# Altium footprint library inductors.PcbLib: 86 footprints (part 3 of 6)
Each footprint in its own frame and in the unit in brackets; x right, y up, seen from the top. Pads: shape width x height; smd on the part's side, far side on the other; paste and mask are expansions set on the pad; w line width, h text height; cw(c..) or ccw(c..) is an arc to the next point about the centre after c.
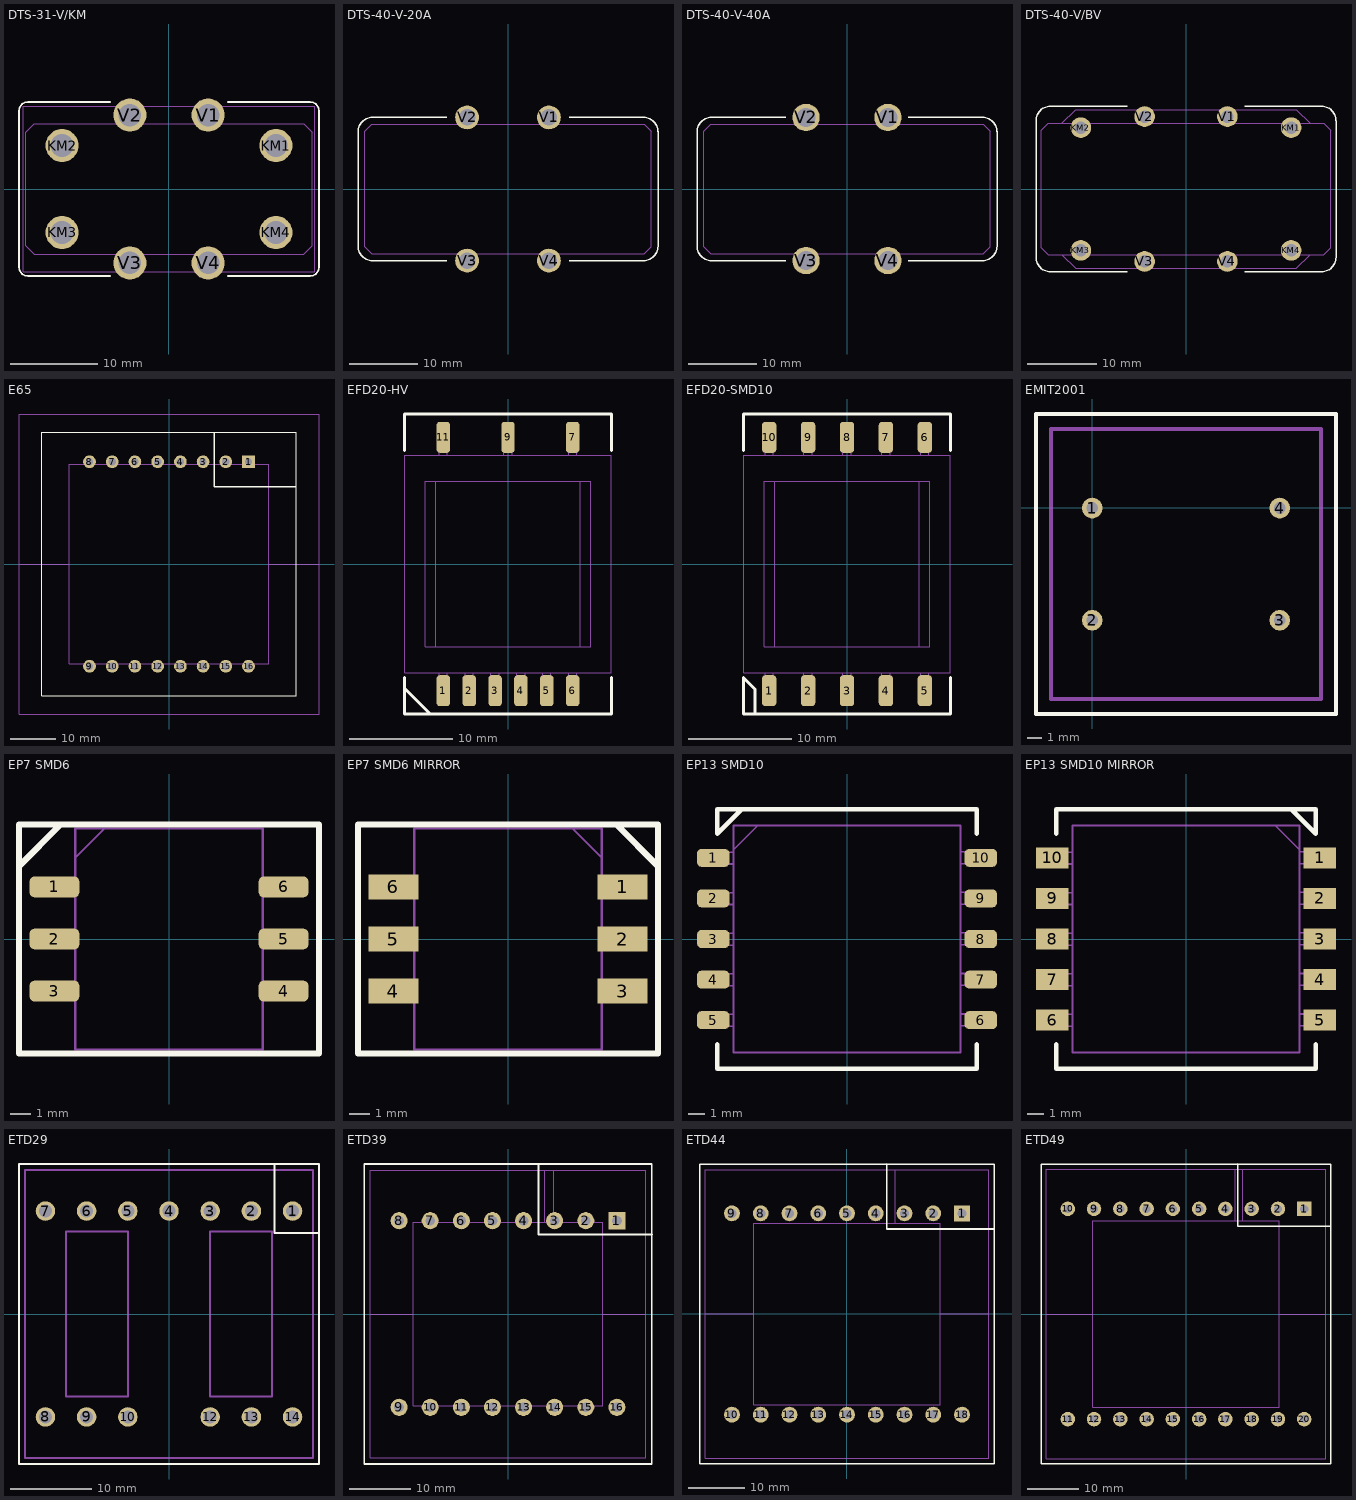
[diagram p2: the footprints below, top view; thin cyan lines are the x and y axes]

## DTS-31-V/KM [mm] "Common mode choke"
height 40
pads (8):
  round 3.8 hole 2.6: KM1(12.3,5) KM2(-12.3,5) KM3(-12.3,-5) KM4(12.3,-5) V1(4.5,8.5) V2(-4.5,8.5) V3(-4.5,-8.5) V4(4.5,-8.5)
Top Overlay:
  lines w0.2: -6.75,-10 -16.25,-10 cw(c-16.25,-9) -17.25,-9 -17.25,9 cw(c-16.25,9) -16.25,10 -6.75,10 ; 6.75,-10 16.25,-10 ccw(c16.25,-9) 17.25,-9 17.25,9 ccw(c16.25,9) 16.25,10 6.75,10
Mechanical 1:
  lines w0.1: -16.75,-9.5 16.75,-9.5 16.75,9.5 -16.75,9.5 -16.75,-9.5 ; -16.5,-6.5 -15.5,-7.5 15.5,-7.5 16.5,-6.5 16.5,6.5 15.5,7.5 -15.5,7.5 -16.5,6.5 -16.5,-6.5
3D body: height 12, standoff 0.5, extent -16.757,-9.507 16.756,9.507
3D body: height 39.98, standoff 7, extent -16.495,-7.5 16.495,7.5

## DTS-40-V-20A [mm] "Common mode choke"
height 42
pads (4):
  round 3.5 hole 2.4: V1(6,10.5) V2(-6,10.5) V3(-6,-10.5) V4(6,-10.5)
Top Overlay:
  lines w0.2: -22,-8.5 -22,8.5 ; -22,-8.384 ccw(c-19.884,-8.384) -19.884,-10.5 -9,-10.5 ; -22,8.384 cw(c-19.884,8.384) -19.884,10.5 -9,10.5 ; 9,-10.5 19.884,-10.5 ccw(c19.884,-8.384) 22,-8.384 ; 9,10.5 19.884,10.5 cw(c19.884,8.384) 22,8.384 ; 22,-8.5 22,8.5
Mechanical 1:
  lines w0.1: -21,-8.5 -20,-9.5 20,-9.5 21,-8.5 21,8.5 20,9.5 -20,9.5 -21,8.5 -21,-8.5
3D body: height 41.98, standoff 0, extent -20.99,-9.501 20.999,9.499

## DTS-40-V-40A [mm] "Common mode choke"
height 42
pads (4):
  round 4 hole 2.8: V1(6,10.5) V2(-6,10.5) V3(-6,-10.5) V4(6,-10.5)
Top Overlay:
  lines w0.2: -22,-8.5 -22,8.5 ; -22,-8.384 ccw(c-19.884,-8.384) -19.884,-10.5 -9,-10.5 ; -22,8.384 cw(c-19.884,8.384) -19.884,10.5 -9,10.5 ; 9,-10.5 19.884,-10.5 ccw(c19.884,-8.384) 22,-8.384 ; 9,10.5 19.884,10.5 cw(c19.884,8.384) 22,8.384 ; 22,-8.5 22,8.5
Mechanical 1:
  lines w0.1: -21,-8.5 -20,-9.5 20,-9.5 21,-8.5 21,8.5 20,9.5 -20,9.5 -21,8.5 -21,-8.5
3D body: height 41.98, standoff 0, extent -20.99,-9.501 20.999,9.499

## DTS-40-V/BV [mm] "Common mode choke"
height 45
pads (8):
  round 3 hole 1.8: KM1(15.25,8.9) KM2(-15.25,8.9) KM3(-15.25,-8.9) KM4(15.25,-8.9) V1(6,10.5) V2(-6,10.5) V3(-6,-10.5) V4(6,-10.5)
Top Overlay:
  lines w0.2: -21.75,9.884 cw(c-19.634,9.884) -19.634,12 -8.5,12 ; -21.75,10 -21.75,-9.884 ccw(c-19.634,-9.884) -19.634,-12 -8.5,-12 ; 8.5,-12 19.634,-12 ccw(c19.634,-9.884) 21.75,-9.884 ; 8.5,12 19.634,12 cw(c19.634,9.884) 21.75,9.884 21.75,-10
Mechanical 1:
  lines w0.1: -18,-9.5 -16,-11.5 16,-11.5 18,-9.5 ; -18,9.5 -16,11.5 16,11.5 18,9.5 ; -21,-8.5 -21,8.5 -20,9.5 20,9.5 21,8.5 21,-8.5 20,-9.5 -20,-9.5 -21,-8.5
3D body: height 12, standoff 0.5, extent -18.012,-11.512 18.012,11.512
3D body: height 44.98, standoff 3, extent -20.99,-9.501 20.999,9.499

## E65 [mm]
height 55
pads (16):
  rect 2.8x2.8 hole 1.6: 1(17.5,22.5)
  round 2.8 hole 1.6: 2(12.5,22.5) 3(7.5,22.5) 4(2.5,22.5) 5(-2.5,22.5) 6(-7.5,22.5) 7(-12.5,22.5) 8(-17.5,22.5) 9(-17.5,-22.5) 10(-12.5,-22.5) 11(-7.5,-22.5) 12(-2.5,-22.5) 13(2.5,-22.5) 14(7.5,-22.5) 15(12.5,-22.5) 16(17.5,-22.5)
Top Overlay:
  lines w0.25: -28,-29 28,-29 28,29 -28,29 -28,-29
  lines w0.3: 10,29 10,17 28,17
Mechanical 1:
  lines w0.1: -33,0 -22,0 ; 22,0 33,0 ; -33,-33 -33,33 33,33 33,-33 -33,-33 ; -22,-22 -22,22 22,22 22,-22 -22,-22
3D body: height 51.97, standoff 4, extent -23.999,-21 23.987,21
3D body: height 7.5, standoff -4.5, extent -17.996,22.001 -17,22.999
3D body: height 12, standoff 1.5, extent -22,-25 22,-20
3D body: height 40, standoff 13, extent -33,0.1 33,33
3D body: height 7.5, standoff -4.5, extent -12.996,22.001 -12,22.999
3D body: height 7.5, standoff -4.5, extent -2.996,22.001 -2,22.999
3D body: height 7.5, standoff -4.5, extent -7.996,22.001 -7,22.999
3D body: height 7.5, standoff -4.5, extent 12.004,22.001 13,22.999
3D body: height 7.5, standoff -4.5, extent 17.004,22.001 18,22.999
3D body: height 7.5, standoff -4.5, extent 7.004,22.001 8,22.999
3D body: height 7.5, standoff -4.5, extent 2.004,22.001 3,22.999
3D body: height 7.5, standoff -4.5, extent 2.004,-22.999 3,-22.001
3D body: height 7.5, standoff -4.5, extent 7.004,-22.999 8,-22.001
3D body: height 7.5, standoff -4.5, extent 17.004,-22.999 18,-22.001
3D body: height 7.5, standoff -4.5, extent 12.004,-22.999 13,-22.001
3D body: height 7.5, standoff -4.5, extent -7.996,-22.999 -7,-22.001
3D body: height 7.5, standoff -4.5, extent -2.996,-22.999 -2,-22.001
3D body: height 7.5, standoff -4.5, extent -12.996,-22.999 -12,-22.001
3D body: height 7.5, standoff -4.5, extent -17.996,-22.999 -17,-22.001
3D body: height 53, standoff 3, extent -22,20.5 -14,22
3D body: height 53, standoff 3, extent -22,-22 22,-20.5
3D body: height 12, standoff 1.5, extent -22,20 22,25
3D body: height 40, standoff 13, extent -33,-33 33,-0.1
3D body: height 53, standoff 3, extent -6,20.5 22,22

## EFD20-HV [mm]
height 9.5
pads (9):
  rrect50% 1.3x3 smd: 1(-6.25,-12.25) 2(-3.75,-12.25) 3(-1.25,-12.25) 4(1.25,-12.25) 5(3.75,-12.25) 6(6.25,-12.25) 7(6.25,12.25) 9(0,12.25) 11(-6.25,12.25)
Top Overlay:
  lines w0.3: -10,-12 -7.5,-14.5 ; -10,-11 -10,-14.5 10,-14.5 10,-11 ; -10,11 -10,14.5 10,14.5 10,11
Mechanical 1:
  lines w0.1: -6.65,-10.5 -6.65,-13.5 -5.85,-13.5 -5.85,-10.5 ; -6.65,10.5 -6.65,13.5 -5.85,13.5 -5.85,10.5 ; -4.15,-10.5 -4.15,-13.5 -3.35,-13.5 -3.35,-10.5 ; -1.65,-10.5 -1.65,-13.5 -0.85,-13.5 -0.85,-10.5 ; -0.4,10.5 -0.4,13.5 0.4,13.5 0.4,10.5 ; 0.85,-10.5 0.85,-13.5 1.65,-13.5 1.65,-10.5 ; 3.35,-10.5 3.35,-13.5 4.15,-13.5 4.15,-10.5 ; 5.85,-10.5 5.85,-13.5 6.65,-13.5 6.65,-10.5 ; 5.85,10.5 5.85,13.5 6.65,13.5 6.65,10.5 ; -7,-8 -7,8 ; -7,-8 7,-8 ; -7,-8 -8,-8 -8,8 -7,8 ; -7,8 7,8 ; 7,-8 7,8 ; 7,-8 8,-8 8,8 7,8 ; -10,-10.5 10,-10.5 10,10.5 -10,10.5 -10,-10.5
3D body: height 9.5, standoff 0.5, extent -7,-7.5 7,7.5
3D body: height 9, standoff 0.5, extent -10,-10.5 10,0
3D body: height 9, standoff 0.5, extent -10,0 10,10.5
3D body: height 1.1, standoff 0, extent -6.5,10.5 -6,13
3D body: height 1.1, standoff 0, extent -0.25,10.5 0.25,13
3D body: height 1.1, standoff 0, extent 6,10.5 6.5,13
3D body: height 1.1, standoff 0, extent -6.5,-13 -6,-10.5
3D body: height 1.1, standoff 0, extent -4,-13 -3.5,-10.5
3D body: height 1.1, standoff 0, extent 1,-13 1.5,-10.5
3D body: height 1.1, standoff 0, extent -1.5,-13 -1,-10.5
3D body: height 1.1, standoff 0, extent 6,-13 6.5,-10.5
3D body: height 1.1, standoff 0, extent 3.5,-13 4,-10.5

## EFD20-SMD10 [mm]
height 9.5
pads (10):
  rrect50% 1.4x3 smd: 1(-7.52,-12.25) 2(-3.76,-12.25) 3(0,-12.25) 4(3.76,-12.25) 5(7.52,-12.25) 6(7.52,12.25) 7(3.76,12.25) 8(0,12.25) 9(-3.76,12.25) 10(-7.52,12.25)
Top Overlay:
  lines w0.3: -10,11 -10,14.5 10,14.5 10,11 ; -8.9,-14.5 -8.9,-12.1 -10,-11 -10,-14.5 10,-14.5 10,-11
Mechanical 1:
  lines w0.1: -7.92,-10.5 -7.92,-13.5 -7.12,-13.5 -7.12,-10.5 ; -7.92,10.5 -7.92,13.5 -7.12,13.5 -7.12,10.5 ; -4.16,-10.5 -4.16,-13.5 -3.36,-13.5 -3.36,-10.5 ; -4.16,10.5 -4.16,13.5 -3.36,13.5 -3.36,10.5 ; -0.4,-10.5 -0.4,-13.5 0.4,-13.5 0.4,-10.5 ; -0.4,10.5 -0.4,13.5 0.4,13.5 0.4,10.5 ; 3.36,-10.5 3.36,-13.5 4.16,-13.5 4.16,-10.5 ; 3.36,10.5 3.36,13.5 4.16,13.5 4.16,10.5 ; 7.12,-10.5 7.12,-13.5 7.92,-13.5 7.92,-10.5 ; 7.12,10.5 7.12,13.5 7.92,13.5 7.92,10.5 ; -7,-8 -7,8 ; -7,-8 7,-8 ; -7,-8 -8,-8 -8,8 -7,8 ; -7,8 7,8 ; 7,-8 7,8 ; 7,-8 8,-8 8,8 7,8 ; -10,-10.5 10,-10.5 10,10.5 -10,10.5 -10,-10.5
3D body: height 9.5, standoff 0.5, extent -7,-7.5 7,7.5
3D body: height 9, standoff 0.5, extent -10,-10.5 10,0
3D body: height 9, standoff 0.5, extent -10,0 10,10.5
3D body: height 1.1, standoff 0, extent -0.25,-13 0.25,-10.5
3D body: height 1.1, standoff 0, extent -4.01,-13 -3.51,-10.5
3D body: height 1.1, standoff 0, extent -7.77,-13 -7.27,-10.5
3D body: height 1.1, standoff 0, extent 3.51,-13 4.01,-10.5
3D body: height 1.1, standoff 0, extent 7.27,-13 7.77,-10.5
3D body: height 1.1, standoff 0, extent -7.77,10.5 -7.27,13
3D body: height 1.1, standoff 0, extent -4.01,10.5 -3.51,13
3D body: height 1.1, standoff 0, extent 7.27,10.5 7.77,13
3D body: height 1.1, standoff 0, extent 3.51,10.5 4.01,13
3D body: height 1.1, standoff 0, extent -0.25,10.5 0.25,13

## EMIT2001 [mm]
pads (4):
  round 1.4 hole 0.8: 1(0,-0.02) 2(0,-7.62) 3(12.7,-7.62) 4(12.7,-0.02)
Top Overlay:
  lines w0.25: -3.81,-13.97 -3.81,6.35 16.51,6.35 16.51,-13.97 -3.81,-13.97
Mechanical 1:
  lines w0.25: -2.8,-12.96 -2.8,5.34 15.5,5.34 15.5,-12.96 -2.8,-12.96

## EP7 SMD6 [mm]
height 9
pads (6):
  rrect50% 2.4x1 smd: 1(-5.5,2.5) 2(-5.5,0) 3(-5.5,-2.5) 4(5.5,-2.5) 5(5.5,0) 6(5.5,2.5)
Top Overlay:
  lines w0.3: -7.2,3.5 -5.2,5.5 ; -7.2,-5.5 7.2,-5.5 7.2,5.5 -7.2,5.5 -7.2,-5.5
Mechanical 1:
  lines w0.1: -4.5,-2.9 -6.5,-2.9 -6.5,-2.1 -4.5,-2.1 ; -4.5,-0.4 -6.5,-0.4 -6.5,0.4 -4.5,0.4 ; -4.5,2.9 -6.5,2.9 -6.5,2.1 -4.5,2.1 -4.5,5.3 ; -4.5,3.9 -3.1,5.3 ; 4.5,-2.9 6.5,-2.9 6.5,-2.1 4.5,-2.1 ; 4.5,-0.4 6.5,-0.4 6.5,0.4 4.5,0.4 ; 4.5,2.1 6.5,2.1 6.5,2.9 4.5,2.9 ; -4.5,5.3 4.5,5.3 4.5,-5.3 -4.5,-5.3 -4.5,5.3
3D body: height 0.4, standoff 0, extent -6.5,2.1 -3.6,2.9
3D body: height 2, standoff 0.3, extent -4.3,-4.6 4.3,4.65
3D body: height 0.4, standoff 0, extent -6.5,-0.4 -3.6,0.4
3D body: height 0.4, standoff 0, extent -6.5,-2.9 -3.6,-2.1
3D body: height 0.4, standoff 0, extent 3.6,2.1 6.5,2.9
3D body: height 0.4, standoff 0, extent 3.6,-0.4 6.5,0.4
3D body: height 0.4, standoff 0, extent 3.6,-2.9 6.5,-2.1
3D body: height 8.5, standoff 2, extent -3.8,-4.7 3.8,4.7

## EP7 SMD6 MIRROR [mm]
height 9
pads (6):
  rect 2.4x1.2 smd: 1(5.5,2.5) 2(5.5,0) 3(5.5,-2.5) 4(-5.5,-2.5) 5(-5.5,0) 6(-5.5,2.5)
Top Overlay:
  lines w0.3: 5.2,5.5 7.2,3.5 ; -7.2,-5.5 -7.2,5.5 7.2,5.5 7.2,-5.5 -7.2,-5.5
Mechanical 1:
  lines w0.1: -4.5,-2.9 -6.5,-2.9 -6.5,-2.1 -4.5,-2.1 ; -4.5,-0.4 -6.5,-0.4 -6.5,0.4 -4.5,0.4 ; -4.5,2.9 -6.5,2.9 -6.5,2.1 -4.5,2.1 -4.5,5.3 ; 3.1,5.3 4.5,3.9 ; 4.5,-2.9 6.5,-2.9 6.5,-2.1 4.5,-2.1 ; 4.5,-0.4 6.5,-0.4 6.5,0.4 4.5,0.4 ; 4.5,2.1 6.5,2.1 6.5,2.9 4.5,2.9 ; -4.5,5.3 -4.5,-5.3 4.5,-5.3 4.5,5.3 -4.5,5.3
3D body: height 8.5, standoff 2, extent -3.8,-4.7 3.8,4.7
3D body: height 0.4, standoff 0, extent 3.6,-2.9 6.5,-2.1
3D body: height 0.4, standoff 0, extent 3.6,-0.4 6.5,0.4
3D body: height 0.4, standoff 0, extent 3.6,2.1 6.5,2.9
3D body: height 0.4, standoff 0, extent -6.5,-2.9 -3.6,-2.1
3D body: height 0.4, standoff 0, extent -6.5,-0.4 -3.6,0.4
3D body: height 9, standoff 2, extent -4.4,-5.3 4.4,5.3
3D body: height 2, standoff 0.3, extent -4.3,-4.6 4.3,4.6
3D body: height 0.4, standoff 0, extent -6.5,2.1 -3.6,2.9

## EP13 SMD10 [mm]
height 12.7
pads (10):
  rrect50% 2x1.1 smd: 1(-8.25,5) 2(-8.25,2.5) 3(-8.25,0) 4(-8.25,-2.5) 5(-8.25,-5) 6(8.25,-5) 7(8.25,-2.5) 8(8.25,0) 9(8.25,2.5) 10(8.25,5)
Top Overlay:
  lines w0.3: -8,-6.5 -8,-8 8,-8 8,-6.5 ; -6.5,8 -8,6.5 -8,8 8,8 8,6.5
Mechanical 1:
  lines w0.1: -7,-5.375 -8.75,-5.375 -8.75,-4.65 -7,-4.65 ; -7,-2.875 -8.75,-2.875 -8.75,-2.15 -7,-2.15 ; -7,-0.375 -8.75,-0.375 -8.75,0.35 -7,0.35 ; -7,2.125 -8.75,2.125 -8.75,2.85 -7,2.85 ; -7,4.625 -8.75,4.625 -8.75,5.35 -7,5.35 ; -7,5.5 -5.5,7 ; 7,-5.35 8.75,-5.35 8.75,-4.625 7,-4.625 ; 7,-2.85 8.75,-2.85 8.75,-2.125 7,-2.125 ; 7,-0.35 8.75,-0.35 8.75,0.375 7,0.375 ; 7,2.15 8.75,2.15 8.75,2.875 7,2.875 ; 7,4.65 8.75,4.65 8.75,5.375 7,5.375 ; -7,-7 7,-7 7,7 -7,7 -7,-7
3D body: height 12.7, standoff 0.5, extent -7,-7 7,7
3D body: height 0.4, standoff 0, extent -8.75,-0.4 -5.85,0.4
3D body: height 0.4, standoff 0, extent -8.75,2.1 -5.85,2.9
3D body: height 0.4, standoff 0, extent -8.75,4.6 -5.85,5.4
3D body: height 0.4, standoff 0, extent -8.75,-2.9 -5.85,-2.1
3D body: height 0.4, standoff 0, extent -8.75,-5.4 -5.85,-4.6
3D body: height 0.4, standoff 0, extent 5.85,4.6 8.75,5.4
3D body: height 0.4, standoff 0, extent 5.85,2.1 8.75,2.9
3D body: height 0.4, standoff 0, extent 5.85,-5.4 8.75,-4.6
3D body: height 0.4, standoff 0, extent 5.85,-2.9 8.75,-2.1
3D body: height 0.4, standoff 0, extent 5.85,-0.4 8.75,0.4

## EP13 SMD10 MIRROR [mm]
height 12.7
pads (10):
  rect 2x1.3 smd: 1(8.25,5) 2(8.25,2.5) 3(8.25,0) 4(8.25,-2.5) 5(8.25,-5) 6(-8.25,-5) 7(-8.25,-2.5) 8(-8.25,0) 9(-8.25,2.5) 10(-8.25,5)
Top Overlay:
  lines w0.3: -8,-6.5 -8,-8 8,-8 8,-6.5 ; -8,6.5 -8,8 8,8 8,6.5 6.5,8
Mechanical 1:
  lines w0.1: -7,-5.375 -8.75,-5.375 -8.75,-4.65 -7,-4.65 ; -7,-2.875 -8.75,-2.875 -8.75,-2.15 -7,-2.15 ; -7,-0.375 -8.75,-0.375 -8.75,0.35 -7,0.35 ; -7,2.125 -8.75,2.125 -8.75,2.85 -7,2.85 ; -7,4.625 -8.75,4.625 -8.75,5.35 -7,5.35 ; 5.5,7 7,5.5 ; 7,-5.35 8.75,-5.35 8.75,-4.625 7,-4.625 ; 7,-2.85 8.75,-2.85 8.75,-2.125 7,-2.125 ; 7,-0.35 8.75,-0.35 8.75,0.375 7,0.375 ; 7,2.15 8.75,2.15 8.75,2.875 7,2.875 ; 7,4.65 8.75,4.65 8.75,5.375 7,5.375 ; -7,-7 7,-7 7,7 -7,7 -7,-7
3D body: height 12.7, standoff 0.5, extent -7,-7 7,7
3D body: height 0.4, standoff 0, extent -8.75,-0.4 -5.85,0.4
3D body: height 0.4, standoff 0, extent -8.75,2.1 -5.85,2.9
3D body: height 0.4, standoff 0, extent -8.75,4.6 -5.85,5.4
3D body: height 0.4, standoff 0, extent -8.75,-2.9 -5.85,-2.1
3D body: height 0.4, standoff 0, extent -8.75,-5.4 -5.85,-4.6
3D body: height 0.4, standoff 0, extent 5.85,4.6 8.75,5.4
3D body: height 0.4, standoff 0, extent 5.85,2.1 8.75,2.9
3D body: height 0.4, standoff 0, extent 5.85,-5.4 8.75,-4.6
3D body: height 0.4, standoff 0, extent 5.85,-2.9 8.75,-2.1
3D body: height 0.4, standoff 0, extent 5.85,-0.4 8.75,0.4

## ETD29 [mm]
pads (13):
  round 2.4 hole 1.6: 1(15.24,12.7) 2(10.16,12.7) 3(5.08,12.7) 4(0,12.7) 5(-5.08,12.7) 6(-10.16,12.7) 7(-15.24,12.7) 8(-15.24,-12.7) 9(-10.16,-12.7) 10(-5.08,-12.7) 12(5.08,-12.7) 13(10.16,-12.7) 14(15.24,-12.7)
Top Overlay:
  lines w0.25: 13,18.5 13,10 18.5,10 ; -18.5,-18.5 18.5,-18.5 18.5,18.5 -18.5,18.5 -18.5,-18.5
Mechanical 1:
  lines w0.25: -17.78,-17.78 17.78,-17.78 17.78,17.78 -17.78,17.78 -17.78,-17.78 ; -12.7,-10.16 -5.08,-10.16 -5.08,10.16 -12.7,10.16 -12.7,-10.16 ; 5.08,-10.16 12.7,-10.16 12.7,10.16 5.08,10.16 5.08,-10.16
3D body: height 6.6, standoff -3.4, extent -15.74,12.201 -14.744,13.199
3D body: height 20, standoff 10, extent -17.5,-17.5 17.5,17.5
3D body: height 26, standoff 4, extent -10.988,-10.5 11,10.5
3D body: height 11, standoff 3, extent -17,10 17,17
3D body: height 6.6, standoff -3.4, extent -10.66,12.201 -9.664,13.199
3D body: height 6.6, standoff -3.4, extent -5.58,12.201 -4.584,13.199
3D body: height 6.6, standoff -3.4, extent -0.5,12.201 0.496,13.199
3D body: height 6.6, standoff -3.4, extent 4.58,12.201 5.576,13.199
3D body: height 6.6, standoff -3.4, extent 9.66,12.201 10.656,13.199
3D body: height 6.6, standoff -3.4, extent 14.74,12.201 15.736,13.199
3D body: height 6.6, standoff -3.4, extent -15.736,-13.199 -14.74,-12.201
3D body: height 6.6, standoff -3.4, extent -10.656,-13.199 -9.66,-12.201
3D body: height 6.6, standoff -3.4, extent -5.576,-13.199 -4.58,-12.201
3D body: height 6.6, standoff -3.4, extent 4.584,-13.199 5.58,-12.201
3D body: height 6.6, standoff -3.4, extent 9.664,-13.199 10.66,-12.201
3D body: height 11, standoff 3, extent -17,-17 17,-10
3D body: height 6.6, standoff -3.4, extent 14.744,-13.199 15.74,-12.201

## ETD39 [mm]
height 37
pads (16):
  rect 2.8x2.8 hole 1.6: 1(17.78,15.24)
  round 2.8 hole 1.6: 2(12.7,15.24) 3(7.62,15.24) 4(2.54,15.24) 5(-2.54,15.24) 6(-7.62,15.24) 7(-12.7,15.24) 8(-17.78,15.24) 9(-17.78,-15.24) 10(-12.7,-15.24) 11(-7.62,-15.24) 12(-2.54,-15.24) 13(2.54,-15.24) 14(7.62,-15.24) 15(12.7,-15.24) 16(17.78,-15.24)
Top Overlay:
  lines w0.25: -23.5,-24.5 23.5,-24.5 23.5,24.5 -23.5,24.5 -23.5,-24.5
  lines w0.3: 5,24.5 5,13 23.5,13
Mechanical 1:
  lines w0.1: -22.5,0 -15.5,0 ; 6,15 6,23.5 ; 7.5,15 7.5,23.5 ; 15.5,0 22.5,0 ; -22.5,-23.5 22.5,-23.5 22.5,23.5 -22.5,23.5 -22.5,-23.5 ; -15.5,-15 -15.5,15 15.5,15 15.5,-15 -15.5,-15
3D body: height 26, standoff 13, extent -19.5,-20 19.5,0
3D body: height 15, standoff 4, extent -22.5,-23.5 22.5,-13.5
3D body: height 36.48, standoff 5.5, extent -15.491,-15 15.5,-13.5
3D body: height 35.98, standoff 6, extent -15,-14.5 14.992,14.5
3D body: height -4, standoff -4.5, extent -13.199,-15.74 -12.2,-14.74
3D body: height -4, standoff -4.5, extent -18.279,-15.74 -17.28,-14.74
3D body: height -4, standoff -4.5, extent -18.279,14.74 -17.28,15.74
3D body: height -4, standoff -4.5, extent -13.199,14.74 -12.2,15.74
3D body: height -4, standoff -4.5, extent -8.119,14.74 -7.12,15.74
3D body: height -4, standoff -4.5, extent -3.039,14.74 -2.04,15.74
3D body: height -4, standoff -4.5, extent 2.041,14.74 3.04,15.74
3D body: height -4, standoff -4.5, extent 7.121,14.74 8.12,15.74
3D body: height -4, standoff -4.5, extent 12.201,14.74 13.2,15.74
3D body: height -4, standoff -4.5, extent 17.281,14.74 18.28,15.74
3D body: height -4, standoff -4.5, extent 17.281,-15.74 18.28,-14.74
3D body: height -4, standoff -4.5, extent 12.201,-15.74 13.2,-14.74
3D body: height -4, standoff -4.5, extent 7.121,-15.74 8.12,-14.74
3D body: height -4, standoff -4.5, extent 2.041,-15.74 3.04,-14.74
3D body: height -4, standoff -4.5, extent -3.039,-15.74 -2.04,-14.74
3D body: height -4, standoff -4.5, extent -8.119,-15.74 -7.12,-14.74
3D body: height 36.48, standoff 5.5, extent -15.5,13.5 15.491,15
3D body: height 15, standoff 4, extent -22.5,13.5 22.5,23.5
3D body: height 26, standoff 13, extent -19.5,0 19.5,20
3D body: height 35, standoff 26, extent 6,15 7.5,23.5

## ETD44 [mm]
height 40
pads (18):
  rect 2.8x2.8 hole 1.6: 1(20.32,17.78)
  round 2.8 hole 1.6: 2(15.24,17.78) 3(10.16,17.78) 4(5.08,17.78) 5(0,17.78) 6(-5.08,17.78) 7(-10.16,17.78) 8(-15.24,17.78) 9(-20.32,17.78) 10(-20.32,-17.78) 11(-15.24,-17.78) 12(-10.16,-17.78) 13(-5.08,-17.78) 14(0,-17.78) 15(5.08,-17.78) 16(10.16,-17.78) 17(15.24,-17.78) 18(20.32,-17.78)
Top Overlay:
  lines w0.25: -26,-26.5 -26,26.5 26,26.5 26,-26.5 -26,-26.5
  lines w0.3: 7,26.5 7,15 26,15
Mechanical 1:
  lines w0.1: -25,0 -16.5,0 ; 7,16 7,25.5 ; 8.5,16 8.5,25.5 ; 16.5,0 25,0 ; -25,-25.5 -25,25.5 25,25.5 25,-25.5 -25,-25.5 ; -16.5,-16 16.5,-16 16.5,16 -16.5,16 -16.5,-16
3D body: height 37, standoff 30, extent 6.5,16 8,25.5
3D body: height 38.48, standoff 5.5, extent -16.491,-16 16.5,-14.5
3D body: height 15, standoff 4, extent -25,-25.5 25,-16
3D body: height 30, standoff 15, extent -22,-22 22,0
3D body: height 30, standoff 15, extent -22,0 22,22
3D body: height 15, standoff 4, extent -25,16 25,25.5
3D body: height 38.48, standoff 5.5, extent -16.5,14.5 16.491,16
3D body: height -4, standoff -4.5, extent -15.739,-18.28 -14.74,-17.28
3D body: height -4, standoff -4.5, extent -10.659,-18.28 -9.66,-17.28
3D body: height -4, standoff -4.5, extent -5.579,-18.28 -4.58,-17.28
3D body: height -4, standoff -4.5, extent -0.499,-18.28 0.5,-17.28
3D body: height -4, standoff -4.5, extent 4.581,-18.28 5.58,-17.28
3D body: height -4, standoff -4.5, extent 9.661,-18.28 10.66,-17.28
3D body: height -4, standoff -4.5, extent 14.741,-18.28 15.74,-17.28
3D body: height -4, standoff -4.5, extent 19.821,-18.28 20.82,-17.28
3D body: height -4, standoff -4.5, extent 19.821,17.28 20.82,18.28
3D body: height -4, standoff -4.5, extent 14.741,17.28 15.74,18.28
3D body: height -4, standoff -4.5, extent 9.661,17.28 10.66,18.28
3D body: height -4, standoff -4.5, extent 4.581,17.28 5.58,18.28
3D body: height -4, standoff -4.5, extent -0.499,17.28 0.5,18.28
3D body: height -4, standoff -4.5, extent -5.579,17.28 -4.58,18.28
3D body: height -4, standoff -4.5, extent -10.659,17.28 -9.66,18.28
3D body: height -4, standoff -4.5, extent -15.739,17.28 -14.74,18.28
3D body: height -4, standoff -4.5, extent -20.819,17.28 -19.82,18.28
3D body: height -4, standoff -4.5, extent -20.819,-18.28 -19.82,-17.28
3D body: height 37.98, standoff 6, extent -16,-15.5 15.991,15.5

## ETD49 [mm]
height 43
pads (20):
  rect 2.8x2.8 hole 1.6: 1(22.86,20.32)
  round 2.8 hole 1.6: 2(17.78,20.32) 3(12.7,20.32) 4(7.62,20.32) 5(2.54,20.32) 6(-2.54,20.32) 7(-7.62,20.32) 8(-12.7,20.32) 9(-17.78,20.32) 10(-22.86,20.32) 11(-22.86,-20.32) 12(-17.78,-20.32) 13(-12.7,-20.32) 14(-7.62,-20.32) 15(-2.54,-20.32) 16(2.54,-20.32) 17(7.62,-20.32) 18(12.7,-20.32) 19(17.78,-20.32) 20(22.86,-20.32)
Top Overlay:
  lines w0.25: -28,-29 -28,29 28,29 28,-29 -28,-29
  lines w0.3: 10,29 10,17 28,17
Mechanical 1:
  lines w0.1: -27,0 -18,0 ; 9.5,18 9.5,28 ; 11,18 11,28 ; 18,0 27,0 ; -27,-28 -27,28 27,28 27,-28 -27,-28 ; -18,-18 18,-18 18,18 -18,18 -18,-18
3D body: height 40, standoff 32, extent 9.25,17 10.75,28
3D body: height 32, standoff 16, extent -25,0 25,25
3D body: height 16, standoff 4, extent -27,17 27,28
3D body: height 42.48, standoff 5.5, extent -18.495,16.5 18.495,18
3D body: height 42.48, standoff 5.5, extent -18.495,-18 18.495,-16.5
3D body: height 16, standoff 4, extent -27,-28 27,-17
3D body: height 32, standoff 16, extent -25,-25 25,0
3D body: height -4, standoff -4.5, extent -23.359,-20.82 -22.36,-19.82
3D body: height -4, standoff -4.5, extent -18.279,-20.82 -17.28,-19.82
3D body: height -4, standoff -4.5, extent -13.199,-20.82 -12.2,-19.82
3D body: height -4, standoff -4.5, extent -8.119,-20.82 -7.12,-19.82
3D body: height -4, standoff -4.5, extent -3.039,-20.82 -2.04,-19.82
3D body: height -4, standoff -4.5, extent 2.041,-20.82 3.04,-19.82
3D body: height -4, standoff -4.5, extent 7.121,-20.82 8.12,-19.82
3D body: height -4, standoff -4.5, extent 12.201,-20.82 13.2,-19.82
3D body: height -4, standoff -4.5, extent 17.281,-20.82 18.28,-19.82
3D body: height -4, standoff -4.5, extent 22.361,-20.82 23.36,-19.82
3D body: height -4, standoff -4.5, extent 22.361,19.82 23.36,20.82
3D body: height -4, standoff -4.5, extent 17.281,19.82 18.28,20.82
3D body: height -4, standoff -4.5, extent 12.201,19.82 13.2,20.82
3D body: height -4, standoff -4.5, extent 7.121,19.82 8.12,20.82
3D body: height -4, standoff -4.5, extent 2.041,19.82 3.04,20.82
3D body: height -4, standoff -4.5, extent -3.039,19.82 -2.04,20.82
3D body: height -4, standoff -4.5, extent -8.119,19.82 -7.12,20.82
3D body: height -4, standoff -4.5, extent -13.199,19.82 -12.2,20.82
3D body: height -4, standoff -4.5, extent -18.279,19.82 -17.28,20.82
3D body: height -4, standoff -4.5, extent -23.359,19.82 -22.36,20.82
3D body: height 41.48, standoff 6.5, extent -17.495,-17.5 17.495,17.5